# EAGLE library part 29F040 (library Mio)
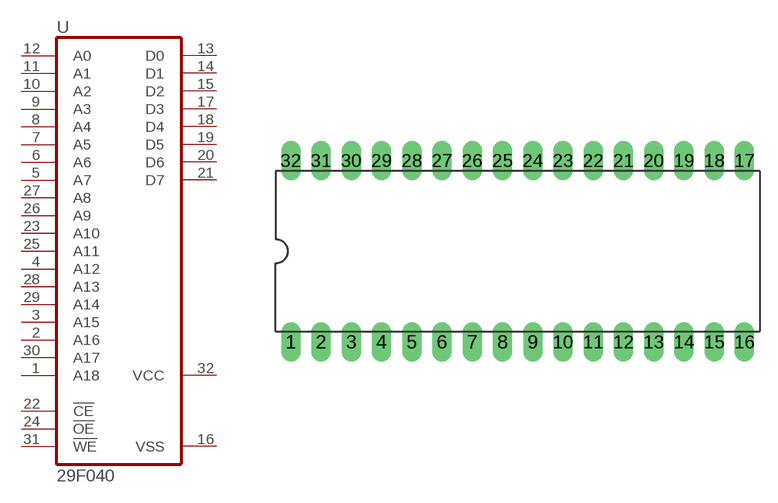
[diagram p0: symbol with the pads of DIL32; footprint DIL32]

Designator prefix -

## 29F040DIL32  [DIL32]
1  A18  in
2  A16  in
3  A15  in
4  A12  in
5  A7  in
6  A6  in
7  A5  in
8  A4  in
9  A3  in
10  A2  in
11  A1  in
12  A0  in
13  D0  hiz
14  D1  hiz
15  D2  hiz
16  VSS  pwr
17  D3  hiz
18  D4  hiz
19  D5  hiz
20  D6  hiz
21  D7  hiz
22  !CE  in
23  A10  in
24  !OE  in
25  A11  in
26  A9  in
27  A8  in
28  A13  in
29  A14  in
30  A17  in
31  !WE  in
32  VCC  pwr

## Footprint DIL32 (pad centres in mm)
drill 1.1 long: 1 -21.59,-8.89; 2 -19.05,-8.89; 3 -16.51,-8.89; 4 -13.97,-8.89; 5 -11.43,-8.89; 6 -8.89,-8.89; 7 -6.35,-8.89; 8 -3.81,-8.89; 9 -1.27,-8.89; 10 1.27,-8.89; 11 3.81,-8.89; 12 6.35,-8.89; 13 8.89,-8.89; 14 11.43,-8.89; 15 13.97,-8.89; 16 16.51,-8.89; 17 16.51,6.35; 18 13.97,6.35; 19 11.43,6.35; 20 8.89,6.35; 21 6.35,6.35; 22 3.81,6.35; 23 1.27,6.35; 24 -1.27,6.35; 25 -3.81,6.35; 26 -6.35,6.35; 27 -8.89,6.35; 28 -11.43,6.35; 29 -13.97,6.35; 30 -16.51,6.35; 31 -19.05,6.35; 32 -21.59,6.35